# Altium schematic symbol library pz254-2-19-w-2.5-g1.SchLib: 1 symbol
Pins are listed as number, name and electrical type; pins without a type are passive.

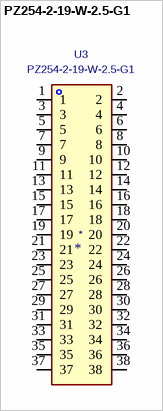
[diagram p0: symbol PZ254-2-19-W-2.5-G1]

## PZ254-2-19-W-2.5-G1
designator *  value PZ254-2-19-W-2.5-G1  Reference: U3
Footprint: easyeda2kicad:HDR-TH_38P-P2.54-H-M-R2-C19-S2.54; LCSC Part: C18198033
pins: 1, 2, 3, 4, 5, 6, 7, 8, 9, 10, 11, 12, 13, 14, 15, 16, 17, 18, 19, 20, 21, 22, 23, 24, 25, 26, 27, 28, 29, 30, 31, 32, 33, 34, 35, 36, 37, 38